# Altium schematic symbol library SCH - LOGIC - TI SN74LVC1G08DRY.SchLib: 1 symbol
Pins are listed as number, name and electrical type; pins without a type are passive.

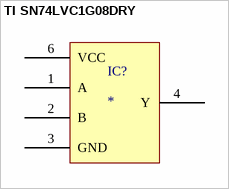
[diagram p0: symbol TI SN74LVC1G08DRY]

## TI SN74LVC1G08DRY
designator IC?
pins: 1 A, 2 B, 3 GND, 4 Y, 6 VCC